# Altium footprint library L10.PcbLib: 5 footprints
Each footprint in its own frame and in the unit in brackets; x right, y up, seen from the top. Pads: shape width x height; smd on the part's side, far side on the other; paste and mask are expansions set on the pad; w line width, h text height; cw(c..) or ccw(c..) is an arc to the next point about the centre after c.
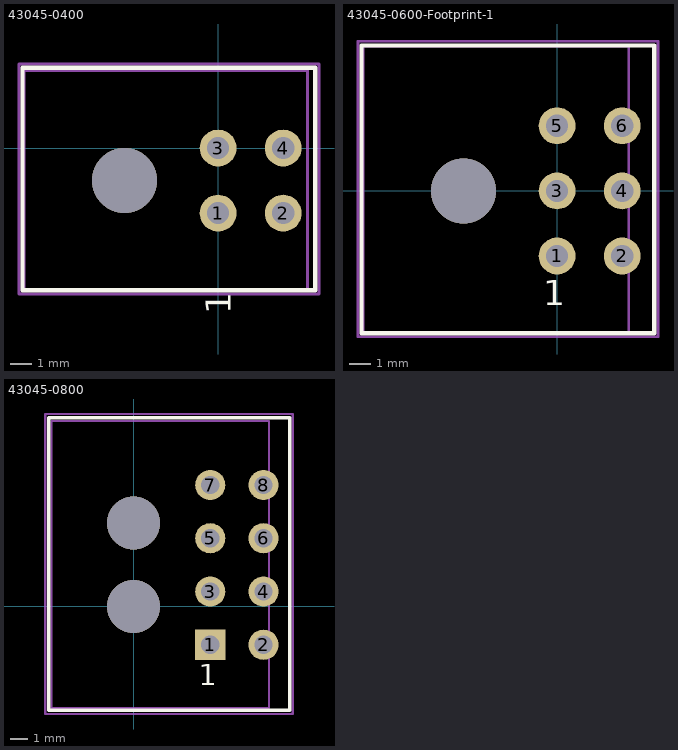
[diagram p0: the footprints below, top view; thin cyan lines are the x and y axes]

## 43030-0003 [mm] "Molex Micro-Fit 3.0 Crimp Terminal"
3D body "430300003.stp": height -5.41, standoff -7.92, extent -1.192,-5.246 1.143,5.754

## 43045-0400 [mm] "Molex Micro-Fit 3.0 2x2"
pads (4):
  round 1.7 hole 1.02: 1(0,-3) 2(3,-3) 3(0,0) 4(3,0)
via -4.32,-1.5 diameter 3 hole 3
Top Overlay:
  lines w0.2: -9.017,-6.556 -9.017,3.7 4.475,3.7 4.475,-6.556 -9.017,-6.556
  text "1" at 0.975,-7.65 h2
Mechanical 2:
  lines w0.127: -8.938,-6.556 -8.938,3.575 4.125,3.575 4.125,-6.556 -8.938,-6.556
Mechanical 4:
  lines w0.127: -9.175,-6.725 4.65,-6.725 4.65,3.875 -9.175,3.875 -9.175,-6.725
3D body "430450400.stp": height 8.83, standoff -3.12, extent -8.92,-6.575 3.32,3.575

## 43045-0600 [mm] "Molex Micro-Fit 3.0 2x3"
3D body "430250600.stp": height 10.7, standoff -0.13, extent -5.969,-6.04 8.031,3.81

## 43045-0600-Footprint-1 [mm] "Molex 3.0mm MicroFit 2x3 Male Connector"
pads (6):
  round 1.7 hole 1.02: 1(0,-3) 2(3,-3) 3(0,0) 4(3,0) 5(0,3) 6(3,3)
via -4.32,0 diameter 3 hole 3
Top Overlay:
  lines w0.2: -9.017,-6.556 -9.017,6.7 4.475,6.7 4.475,-6.556 -9.017,-6.556
  text "1" at -0.637,-5.666 h2
Mechanical 2:
  lines w0.127: -8.938,-6.556 -8.938,6.675 3.302,6.675 3.302,-6.556 -8.938,-6.556
Mechanical 4:
  lines w0.127: -9.175,-6.725 -9.175,6.9 4.65,6.9 4.65,-6.725 -9.175,-6.725
3D body "430450600.stp": height 8.83, standoff -3.12, extent -8.92,-6.565 3.32,6.585

## 43045-0800 [mm] "Molex MicroFit 3.0 2x4"
pads (8):
  rect 1.7x1.7 hole 1.02: 1(4.32,-2.16)
  round 1.7 hole 1.02: 2(7.32,-2.16) 3(4.32,0.84) 4(7.32,0.84) 5(4.32,3.84) 6(7.32,3.84) 7(4.32,6.84) 8(7.32,6.84)
via 0,0 diameter 3 hole 3
via 0,4.7 diameter 3 hole 3
Top Overlay:
  lines w0.2: -4.78,-5.86 8.795,-5.86 8.795,10.64 -4.78,10.64 -4.78,-5.86
  text "1" at 3.683,-4.826 h2
Mechanical 13:
  lines w0.127: -4.618,-5.716 7.622,-5.716 7.622,10.44 -4.618,10.44 -4.618,-5.716
Mechanical 15:
  lines w0.127: -4.98,-6.06 -4.98,10.84 8.97,10.84 8.97,-6.06 -4.98,-6.06
Mechanical 17:
  text "'.Designator'" at -3.08,-2.01 h0.5
3D body "430450800.stp": height 8.83, standoff -3.12, extent -4.6,-5.725 7.64,10.425